# Altium footprint library IMMO.PcbLib: 10 footprints
Each footprint in its own frame and in the unit in brackets; x right, y up, seen from the top. Pads: shape width x height; smd on the part's side, far side on the other; paste and mask are expansions set on the pad; w line width, h text height; cw(c..) or ccw(c..) is an arc to the next point about the centre after c.
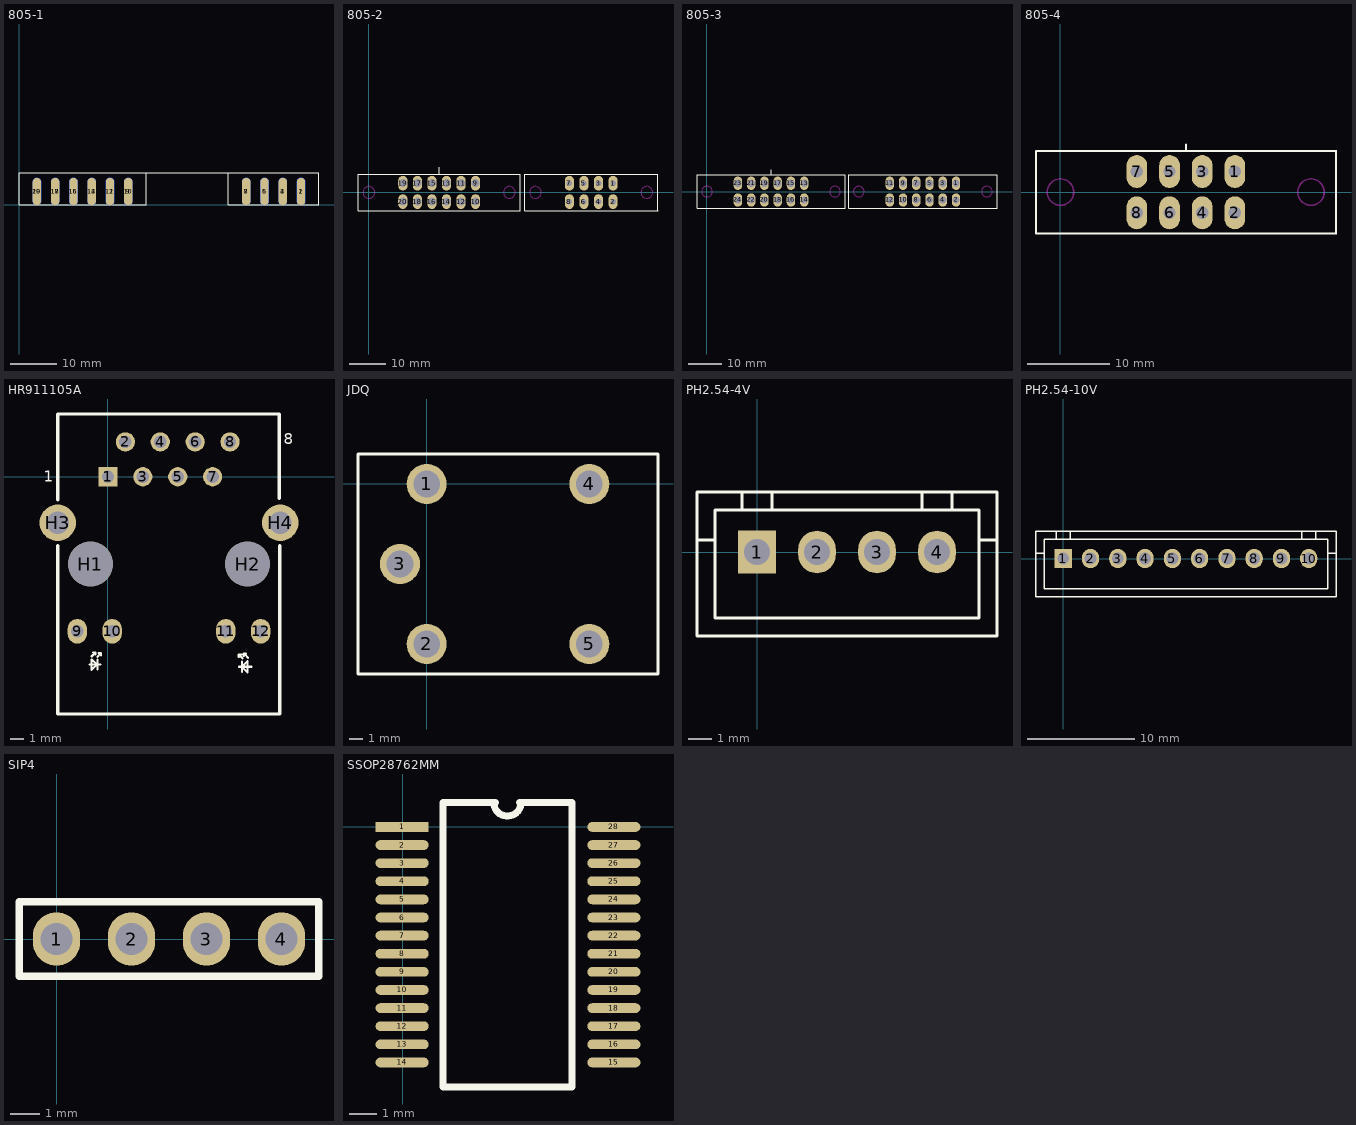
[diagram p0: the footprints below, top view; thin cyan lines are the x and y axes]

## 805-1 [mm]
pads (20):
  oval 1.8x6 smd far side: 1(61.116,2.845) 3(57.156,2.845) 5(53.196,2.845) 7(49.236,2.845) 9(23.675,2.845) 11(19.715,2.845) 13(15.755,2.845) 15(11.795,2.845) 17(7.835,2.845) 19(3.875,2.845)
  oval 1.8x6 smd: 2(61.116,2.845) 4(57.156,2.845) 6(53.196,2.845) 8(49.236,2.845) 10(23.675,2.845) 12(19.715,2.845) 14(15.755,2.845) 16(11.795,2.845) 18(7.835,2.845) 20(3.875,2.845)
Top Overlay:
  lines w0.254: 27.598,6.985 27.598,0 0,0 0,6.985 45.336,6.985 ; 45.336,6.985 45.327,6.976 45.327,0 65.001,0 65.001,6.985 45.336,6.985

## 805-2 [mm]
pads (20):
  oval 2.5x4 hole 1.5: 1(66.487,2.489) 2(66.487,-2.511) 3(62.527,2.489) 4(62.527,-2.511) 5(58.567,2.489) 6(58.567,-2.511) 7(54.607,2.489) 8(54.607,-2.511)
  oval 2.5x4 hole 2.2: 9(29.046,2.489) 10(29.046,-2.511) 11(25.086,2.489) 12(25.086,-2.511) 13(21.126,2.489) 14(21.126,-2.511) 15(17.166,2.489) 16(17.166,-2.511) 17(13.206,2.489) 18(13.206,-2.511) 19(9.246,2.489) 20(9.246,-2.511)
Top Overlay:
  lines w0.254: -2.965,-5.011 41.281,-5.011 41.281,4.985 ; -2.957,-5.003 -2.957,4.989 41.277,4.989 ; 9.246,-5.011 34.606,-5.011 ; 19.177,5.004 19.177,6.833 ; 42.397,-5.011 78.723,-5.011 ; 42.405,-5.003 42.405,4.989 78.719,4.989 78.723,4.985 78.723,-5.011 ; 54.607,4.989 74.407,4.989 ; 78.73,-5.004 78.723,-5.011
Keep-Out Layer:
  circle w0.203: c0,0 r1.6
  circle w0.203: c38.252,0 r1.6
  circle w0.203: c75.694,0 r1.6
  circle w0.203: c45.362,0 r1.6

## 805-3 [mm]
pads (24):
  oval 2.5x4 hole 2.2: 1(74.44,2.51) 2(74.44,-2.49) 3(70.48,2.51) 4(70.48,-2.49) 5(66.52,2.51) 6(66.52,-2.49) 7(62.56,2.51) 8(62.56,-2.49) 9(58.6,2.51) 10(58.6,-2.49) 11(54.64,2.51) 12(54.64,-2.49) 13(29.077,2.51) 14(29.077,-2.49) 15(25.117,2.51) 16(25.117,-2.49) 17(21.157,2.51) 18(21.157,-2.49) 19(17.197,2.51) 20(17.197,-2.49) 21(13.237,2.51) 22(13.237,-2.49) 23(9.277,2.51) 24(9.277,-2.49)
Top Overlay:
  lines w0.254: -2.933,-4.99 41.313,-4.99 41.313,5.006 ; -2.925,-4.983 -2.925,5.01 41.309,5.01 ; 9.277,-4.99 34.637,-4.99 ; 19.202,5.004 19.202,6.579 ; 42.43,-4.99 86.676,-4.99 86.676,5.006 ; 42.438,-4.983 42.438,5.01 86.672,5.01 ; 54.64,-4.99 80,-4.99
Keep-Out Layer:
  circle w0.203: c0.032,0.02 r1.6
  circle w0.203: c38.284,0.02 r1.6
  circle w0.203: c45.395,0.02 r1.6
  circle w0.203: c83.647,0.02 r1.6

## 805-4 [mm]
pads (8):
  oval 2.5x4 hole 1.5: 1(21.148,2.489) 2(21.148,-2.511) 3(17.188,2.489) 4(17.188,-2.511) 5(13.228,2.489) 6(13.228,-2.511) 7(9.268,2.489) 8(9.268,-2.511)
Top Overlay:
  lines w0.254: -2.942,-5.011 33.384,-5.011 ; -2.934,-5.003 -2.934,4.989 33.38,4.989 33.384,4.985 33.384,-5.011 ; 9.268,4.989 29.068,4.989 ; 15.223,4.989 15.223,5.757 ; 33.391,-5.004 33.384,-5.011
Keep-Out Layer:
  circle w0.203: c0.023,0 r1.6
  circle w0.203: c30.355,0 r1.6

## HR911105A [mm]
pads (16):
  rect 1.4x1.4 hole 0.9: 1(0,0)
  round 1.4 hole 0.9: 2(1.27,2.54) 3(2.54,0) 4(3.81,2.54) 5(5.08,0) 6(6.35,2.54) 7(7.62,0) 8(8.89,2.54)
  oval 1.4x1.8 hole 0.9: 9(-2.23,-11.25) 10(0.31,-11.25) 11(8.58,-11.25) 12(11.12,-11.25)
  round 3.25 hole 3.25: H1(-1.27,-6.35) H2(10.16,-6.35)
  round 2.65 hole 1.65: H3(-3.655,-3.35) H4(12.545,-3.35)
Top Overlay:
  lines w0.15: -1.354,-13.659 -0.556,-13.659 ; -1.196,-13.08 -0.935,-12.821 ; -1.176,-13.301 -0.815,-13.659 ; -1.156,-13.301 -1.196,-13.301 -1.196,-14.061 -0.775,-13.641 ; -0.775,-13.121 -0.536,-12.859 ; -0.754,-14.04 -0.754,-13.301 ; 9.544,-13.83 10.444,-13.83 ; 9.544,-12.971 9.804,-13.23 ; 9.745,-14.211 9.745,-13.451 ; 9.745,-13.83 10.144,-14.231 10.144,-13.431 9.765,-13.809 9.745,-13.809 ; 9.946,-12.93 10.205,-13.19 ; -1.074,-12.781 -0.914,-12.94 -0.914,-12.801 -0.935,-12.781 -1.074,-12.781 ; -0.676,-12.821 -0.495,-13.002 -0.495,-12.821 -0.676,-12.821 ; 9.504,-13.131 9.705,-12.93 9.504,-12.93 9.504,-13.131 ; 9.885,-13.05 10.065,-12.869 9.885,-12.869 9.885,-13.05
  lines w0.254: -3.67,-1.689 -3.67,4.57 ; -3.65,4.57 12.479,4.57 12.479,-1.569 ; -3.64,-5.029 -3.64,-17.27 12.499,-17.27 12.499,-5.029
  text "1" at -4.655,-0.35 h0.79
  text "8" at 12.795,2.35 h0.79

## JDQ [mm]
pads (5):
  round 3 hole 2: 1(0,0) 2(0,-12) 3(-2,-6) 4(12.2,0) 5(12.2,-12)
Top Overlay:
  lines w0.254: -5.15,-14.25 -5.15,2.25 17.35,2.25 17.35,-14.25 -5.15,-14.25

## PH2.54-4V [mm]
pads (4):
  rect 1.6x1.8 hole 1.1: 1(0,0)
  oval 1.6x1.8 hole 1.1: 2(2.54,0) 3(5.08,0) 4(7.62,0)
Top Overlay:
  lines w0.127: -2.54,0.508 -1.778,0.508 ; -0.635,1.778 -0.635,2.54 ; 0.635,1.778 0.635,2.54 ; 6.985,1.778 6.985,2.54 ; 8.255,1.778 8.255,2.54 ; 9.398,0.508 10.16,0.508 ; -2.54,-3.556 -2.54,2.54 10.16,2.54 10.16,-3.556 -2.54,-3.556 ; -1.778,-2.794 -1.778,1.778 9.398,1.778 9.398,-2.794 -1.778,-2.794

## PH2.54-10V [mm]
pads (10):
  rect 1.6x1.8 hole 1.1: 1(0,0)
  oval 1.6x1.8 hole 1.1: 2(2.54,0) 3(5.08,0) 4(7.62,0) 5(10.16,0) 6(12.7,0) 7(15.24,0) 8(17.78,0) 9(20.32,0) 10(22.86,0)
Top Overlay:
  lines w0.127: -2.54,0.508 -1.778,0.508 ; -0.635,1.778 -0.635,2.54 ; 0.635,1.778 0.635,2.54 ; 22.225,1.778 22.225,2.54 ; 23.495,1.778 23.495,2.54 ; 24.638,0.508 25.4,0.508 ; -2.54,-3.556 -2.54,2.54 25.4,2.54 25.4,-3.556 -2.54,-3.556 ; -1.778,-2.794 -1.778,1.778 24.638,1.778 24.638,-2.794 -1.778,-2.794

## SIP4 [mm]
pads (4):
  oval 1.6x1.801 hole 1.1: 1(0,0) 2(2.54,0) 3(5.08,0) 4(7.62,0)
Top Overlay:
  lines w0.254: -1.27,-1.27 8.89,-1.27 8.89,1.27 -1.27,1.27 -1.27,-1.27

## SSOP28762MM [mm]
pads (28):
  rect 1.905x0.35 smd: 1(-0.025,0)
  oval 1.905x0.35 smd: 2(-0.025,-0.65) 3(-0.025,-1.3) 4(-0.025,-1.95) 5(-0.025,-2.6) 6(-0.025,-3.25) 7(-0.025,-3.9) 8(-0.025,-4.55) 9(-0.025,-5.2) 10(-0.025,-5.85) 11(-0.025,-6.5) 12(-0.025,-7.15) 13(-0.025,-7.8) 14(-0.025,-8.45) 15(7.575,-8.45) 16(7.575,-7.8) 17(7.575,-7.15) 18(7.575,-6.5) 19(7.575,-5.85) 20(7.575,-5.2) 21(7.575,-4.55) 22(7.575,-3.9) 23(7.575,-3.25) 24(7.575,-2.6) 25(7.575,-1.95) 26(7.575,-1.3) 27(7.575,-0.65) 28(7.575,0)
Top Overlay:
  lines w0.254: 3.266,0.874 ccw(c3.753,0.874) 4.239,0.874 ; 3.327,0.874 1.438,0.874 1.438,-9.324 6.068,-9.324 6.068,0.874 4.191,0.874